# Altium footprint library IND_ASPI-8040S-510M-T.PcbLib: 1 footprints
Each footprint in its own frame and in the unit in brackets; x right, y up, seen from the top. Pads: shape width x height; smd on the part's side, far side on the other; paste and mask are expansions set on the pad; w line width, h text height; cw(c..) or ccw(c..) is an arc to the next point about the centre after c.
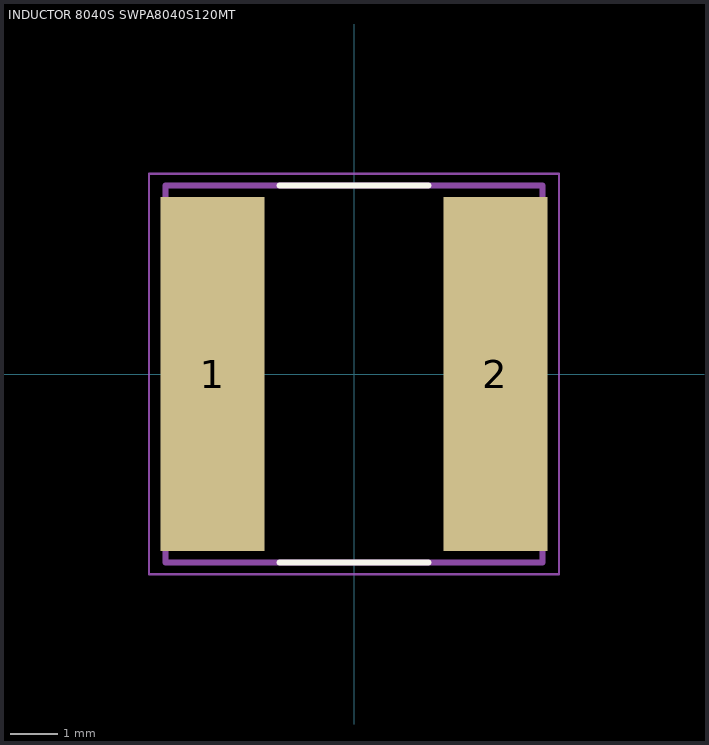
[diagram p0: the footprint, top view; thin cyan lines are the x and y axes]

## INDUCTOR 8040S SWPA8040S120MT [mm]
height 4.2
pads (2):
  rect 2.2x7.5 smd: 1(-3,0) 2(3,0)
Top Overlay:
  lines w0.127: -1.58,-4 1.58,-4 ; -1.58,4 1.58,4
Mechanical 13:
  lines w0.127: -4,-4 4,-4 4,4 -4,4 -4,-4
Mechanical 15:
  lines w0.05: -4.35,-4.25 4.35,-4.25 4.35,4.25 -4.35,4.25 -4.35,-4.25
3D body "step_temp.STEP": height 4, standoff 0, extent -4,-4 4,4